# EAGLE library part FE80-2W-HALFKEY (library dms-connector)
FEMALE HEADER Used for backplane on IOC Shelf, 2 40x2 segments with a key between.
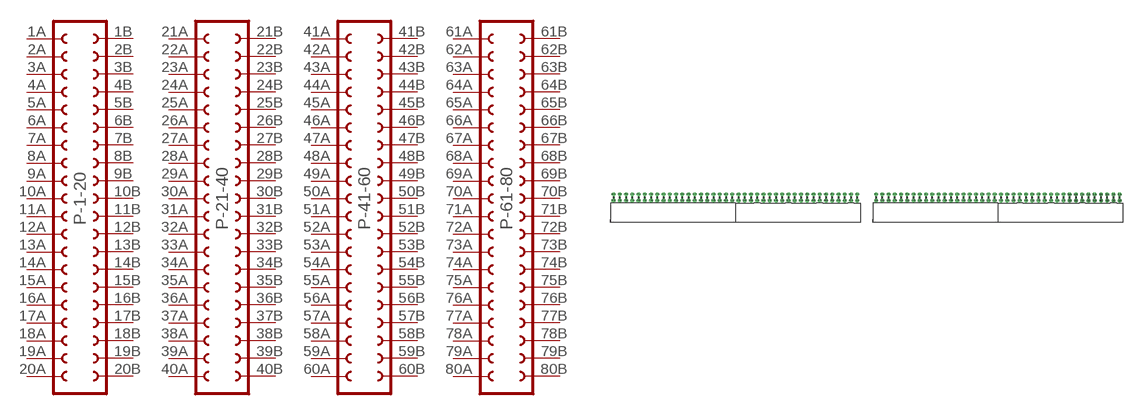
[diagram p0: symbol with the pads of FE80-2W-HALFKEY; footprint FE80-2W-HALFKEY]

Designator prefix P; gates -1-20=FE20-2 -21-40=FE20-2 -41-60=FE20-2 -61-80=FE20-2

## FE80-2W-HALFKEY (OC_FARNELL: unknown; OC_NEWARK: unknown)  [FE80-2W-HALFKEY]
1A  -1-20:1A  pas
1B  -1-20:1B  pas
2A  -1-20:2A  pas
2B  -1-20:2B  pas
3A  -1-20:3A  pas
3B  -1-20:3B  pas
4A  -1-20:4A  pas
4B  -1-20:4B  pas
5A  -1-20:5A  pas
5B  -1-20:5B  pas
6A  -1-20:6A  pas
6B  -1-20:6B  pas
7A  -1-20:7A  pas
7B  -1-20:7B  pas
8A  -1-20:8A  pas
8B  -1-20:8B  pas
9A  -1-20:9A  pas
9B  -1-20:9B  pas
10A  -1-20:10A  pas
10B  -1-20:10B  pas
11A  -1-20:11A  pas
11B  -1-20:11B  pas
12A  -1-20:12A  pas
12B  -1-20:12B  pas
13A  -1-20:13A  pas
13B  -1-20:13B  pas
14A  -1-20:14A  pas
14B  -1-20:14B  pas
15A  -1-20:15A  pas
15B  -1-20:15B  pas
16A  -1-20:16A  pas
16B  -1-20:16B  pas
17A  -1-20:17A  pas
17B  -1-20:17B  pas
18A  -1-20:18A  pas
18B  -1-20:18B  pas
19A  -1-20:19A  pas
19B  -1-20:19B  pas
20A  -1-20:20A  pas
20B  -1-20:20B  pas
21A  -21-40:1A  pas
21B  -21-40:1B  pas
22A  -21-40:2A  pas
22B  -21-40:2B  pas
23A  -21-40:3A  pas
23B  -21-40:3B  pas
24A  -21-40:4A  pas
24B  -21-40:4B  pas
25A  -21-40:5A  pas
25B  -21-40:5B  pas
26A  -21-40:6A  pas
26B  -21-40:6B  pas
27A  -21-40:7A  pas
27B  -21-40:7B  pas
28A  -21-40:8A  pas
28B  -21-40:8B  pas
29A  -21-40:9A  pas
29B  -21-40:9B  pas
30A  -21-40:10A  pas
30B  -21-40:10B  pas
31A  -21-40:11A  pas
31B  -21-40:11B  pas
32A  -21-40:12A  pas
32B  -21-40:12B  pas
33A  -21-40:13A  pas
33B  -21-40:13B  pas
34A  -21-40:14A  pas
34B  -21-40:14B  pas
35A  -21-40:15A  pas
35B  -21-40:15B  pas
36A  -21-40:16A  pas
36B  -21-40:16B  pas
37A  -21-40:17A  pas
37B  -21-40:17B  pas
38A  -21-40:18A  pas
38B  -21-40:18B  pas
39A  -21-40:19A  pas
39B  -21-40:19B  pas
40A  -21-40:20A  pas
40B  -21-40:20B  pas
41A  -41-60:1A  pas
41B  -41-60:1B  pas
42A  -41-60:2A  pas
42B  -41-60:2B  pas
43A  -41-60:3A  pas
43B  -41-60:3B  pas
44A  -41-60:4A  pas
44B  -41-60:4B  pas
45A  -41-60:5A  pas
45B  -41-60:5B  pas
46A  -41-60:6A  pas
46B  -41-60:6B  pas
47A  -41-60:7A  pas
47B  -41-60:7B  pas
48A  -41-60:8A  pas
48B  -41-60:8B  pas
49A  -41-60:9A  pas
49B  -41-60:9B  pas
50A  -41-60:10A  pas
50B  -41-60:10B  pas
51A  -41-60:11A  pas
51B  -41-60:11B  pas
52A  -41-60:12A  pas
52B  -41-60:12B  pas
53A  -41-60:13A  pas
53B  -41-60:13B  pas
54A  -41-60:14A  pas
54B  -41-60:14B  pas
55A  -41-60:15A  pas
55B  -41-60:15B  pas
56A  -41-60:16A  pas
56B  -41-60:16B  pas
57A  -41-60:17A  pas
57B  -41-60:17B  pas
58A  -41-60:18A  pas
58B  -41-60:18B  pas
59A  -41-60:19A  pas
59B  -41-60:19B  pas
60A  -41-60:20A  pas
60B  -41-60:20B  pas
61A  -61-80:1A  pas
61B  -61-80:1B  pas
62A  -61-80:2A  pas
62B  -61-80:2B  pas
63A  -61-80:3A  pas
63B  -61-80:3B  pas
64A  -61-80:4A  pas
64B  -61-80:4B  pas
65A  -61-80:5A  pas
65B  -61-80:5B  pas
66A  -61-80:6A  pas
66B  -61-80:6B  pas
67A  -61-80:7A  pas
67B  -61-80:7B  pas
68A  -61-80:8A  pas
68B  -61-80:8B  pas
69A  -61-80:9A  pas
69B  -61-80:9B  pas
70A  -61-80:10A  pas
70B  -61-80:10B  pas
71A  -61-80:11A  pas
71B  -61-80:11B  pas
72A  -61-80:12A  pas
72B  -61-80:12B  pas
73A  -61-80:13A  pas
73B  -61-80:13B  pas
74A  -61-80:14A  pas
74B  -61-80:14B  pas
75A  -61-80:15A  pas
75B  -61-80:15B  pas
76A  -61-80:16A  pas
76B  -61-80:16B  pas
77A  -61-80:17A  pas
77B  -61-80:17B  pas
78A  -61-80:18A  pas
78B  -61-80:18B  pas
79A  -61-80:19A  pas
79B  -61-80:19B  pas
80A  -61-80:20A  pas
80B  -61-80:20B  pas

## Footprint FE80-2W-HALFKEY (pad centres in mm)
FEMALE HEADER
drill 1.016 octagon: 1A 24.13,1.27; 1B 24.13,-1.27; 2A 21.59,1.27; 2B 21.59,-1.27; 3A 19.05,1.27; 3B 19.05,-1.27; 4A 16.51,1.27; 4B 16.51,-1.27; 5A 13.97,1.27; 5B 13.97,-1.27; 6A 11.43,1.27; 6B 11.43,-1.27; 7A 8.89,1.27; 7B 8.89,-1.27; 8A 6.35,1.27; 8B 6.35,-1.27; 9A 3.81,1.27; 9B 3.81,-1.27; 10A 1.27,1.27; 10B 1.27,-1.27; 11A -1.27,1.27; 11B -1.27,-1.27; 12A -3.81,1.27; 12B -3.81,-1.27; 13A -6.35,1.27; 13B -6.35,-1.27; 14A -8.89,1.27; 14B -8.89,-1.27; 15A -11.43,1.27; 15B -11.43,-1.27; 16A -13.97,1.27; 16B -13.97,-1.27; 17A -16.51,1.27; 17B -16.51,-1.27; 18A -19.05,1.27; 18B -19.05,-1.27; 19A -21.59,1.27; 19B -21.59,-1.27; 20A -24.13,1.27; 20B -24.13,-1.27; 21A -26.67,1.27; 21B -26.67,-1.27; 22A -29.21,1.27; 22B -29.21,-1.27; 23A -31.75,1.27; 23B -31.75,-1.27; 24A -34.29,1.27; 24B -34.29,-1.27; 25A -36.83,1.27; 25B -36.83,-1.27; 26A -39.37,1.27; 26B -39.37,-1.27; 27A -41.91,1.27; 27B -41.91,-1.27; 28A -44.45,1.27; 28B -44.45,-1.27; 29A -46.99,1.27; 29B -46.99,-1.27; 30A -49.53,1.27; 30B -49.53,-1.27; 31A -52.07,1.27; 31B -52.07,-1.27; 32A -54.61,1.27; 32B -54.61,-1.27; 33A -57.15,1.27; 33B -57.15,-1.27; 34A -59.69,1.27; 34B -59.69,-1.27; 35A -62.23,1.27; 35B -62.23,-1.27; 36A -64.77,1.27; 36B -64.77,-1.27; 37A -67.31,1.27; 37B -67.31,-1.27; 38A -69.85,1.27; 38B -69.85,-1.27; 39A -72.39,1.27; 39B -72.39,-1.27; 40A -74.93,1.27; 40B -74.93,-1.27; 41A -82.55,1.27; 41B -82.55,-1.27; 42A -85.09,1.27; 42B -85.09,-1.27; 43A -87.63,1.27; 43B -87.63,-1.27; 44A -90.17,1.27; 44B -90.17,-1.27; 45A -92.71,1.27; 45B -92.71,-1.27; 46A -95.25,1.27; 46B -95.25,-1.27; 47A -97.79,1.27; 47B -97.79,-1.27; 48A -100.33,1.27; 48B -100.33,-1.27; 49A -102.87,1.27; 49B -102.87,-1.27; 50A -105.41,1.27; 50B -105.41,-1.27; 51A -107.95,1.27; 51B -107.95,-1.27; 52A -110.49,1.27; 52B -110.49,-1.27; 53A -113.03,1.27; 53B -113.03,-1.27; 54A -115.57,1.27; 54B -115.57,-1.27; 55A -118.11,1.27; 55B -118.11,-1.27; 56A -120.65,1.27; 56B -120.65,-1.27; 57A -123.19,1.27; 57B -123.19,-1.27; 58A -125.73,1.27; 58B -125.73,-1.27; 59A -128.27,1.27; 59B -128.27,-1.27; 60A -130.81,1.27; 60B -130.81,-1.27; 61A -133.35,1.27; 61B -133.35,-1.27; 62A -135.89,1.27; 62B -135.89,-1.27; 63A -138.43,1.27; 63B -138.43,-1.27; 64A -140.97,1.27; 64B -140.97,-1.27; 65A -143.51,1.27; 65B -143.51,-1.27; 66A -146.05,1.27; 66B -146.05,-1.27; 67A -148.59,1.27; 67B -148.59,-1.27; 68A -151.13,1.27; 68B -151.13,-1.27; 69A -153.67,1.27; 69B -153.67,-1.27; 70A -156.21,1.27; 70B -156.21,-1.27; 71A -158.75,1.27; 71B -158.75,-1.27; 72A -161.29,1.27; 72B -161.29,-1.27; 73A -163.83,1.27; 73B -163.83,-1.27; 74A -166.37,1.27; 74B -166.37,-1.27; 75A -168.91,1.27; 75B -168.91,-1.27; 76A -171.45,1.27; 76B -171.45,-1.27; 77A -173.99,1.27; 77B -173.99,-1.27; 78A -176.53,1.27; 78B -176.53,-1.27; 79A -179.07,1.27; 79B -179.07,-1.27; 80A -181.61,1.27; 80B -181.61,-1.27